# Altium footprint library Proyecto_TD3.PcbLib: 21 footprints (part 2 of 2)
Each footprint in its own frame and in the unit in brackets; x right, y up, seen from the top. Pads: shape width x height; smd on the part's side, far side on the other; paste and mask are expansions set on the pad; w line width, h text height; cw(c..) or ccw(c..) is an arc to the next point about the centre after c.
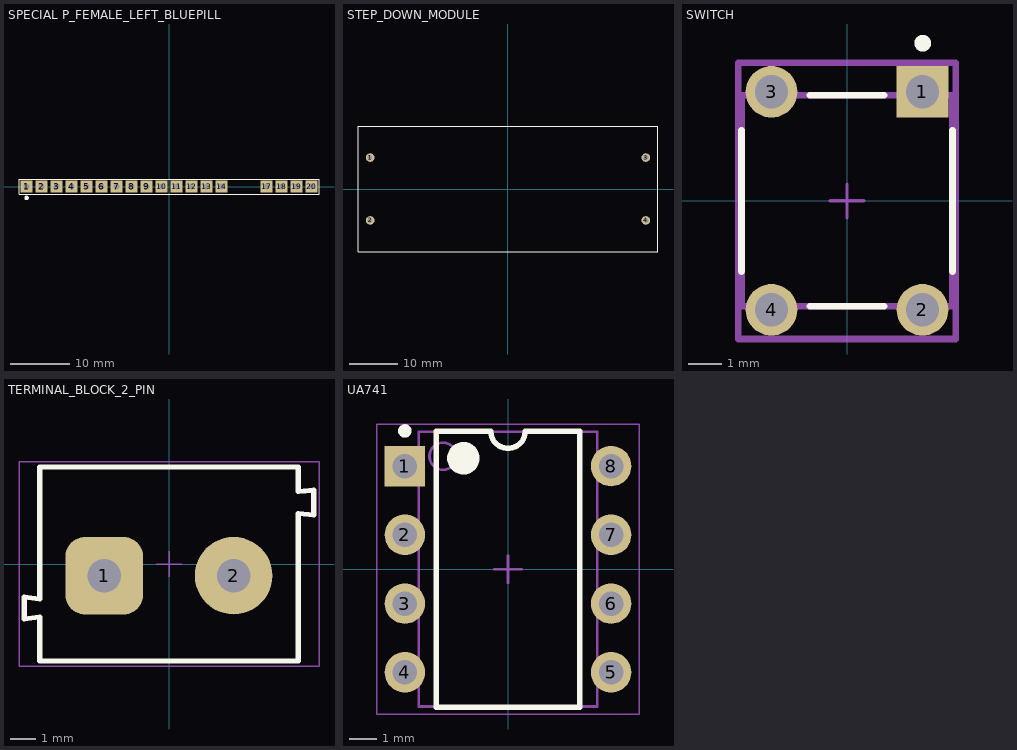
[diagram p1: the footprints below, top view; thin cyan lines are the x and y axes]

## SPECIAL P_FEMALE_LEFT_BLUEPILL [mm]
pads (18):
  rect 2x2 hole 1.016: 1(-24.13,0) 2(-21.59,0) 3(-19.05,0) 4(-16.51,0) 5(-13.97,0) 6(-11.43,0) 7(-8.89,0) 8(-6.35,0) 9(-3.81,0) 10(-1.27,0) 11(1.27,0) 12(3.81,0) 13(6.35,0) 14(8.89,0) 17(16.51,0) 18(19.05,0) 19(21.59,0) 20(24.13,0)
Top Overlay:
  circle w0.381: c-24.128,-1.905 r0.191
  lines w0.2: -10.16,-1.27 25.4,-1.27 25.4,-0.635 25.4,0.635 25.4,1.27 -10.16,1.27 ; 10.16,-1.27 -25.4,-1.27 -25.4,1.27 10.16,1.27
3D body "User Library-zl262-10s_p2-54_l25-9_w2-54_h8-5.step": height 8.5, standoff -3, extent -0.25,-1.27 25.65,1.27
3D body "User Library-zl262-10s_p2-54_l25-9_w2-54_h8-5.step": height 8.5, standoff -3, extent -25.65,-1.27 0.25,1.27

## STEP_DOWN_MODULE [mil]
pads (4):
  round 70 hole 40: 1(-1122.05,255.91) 2(-1122.05,-255.91) 3(1122.05,255.91) 4(1122.05,-255.91)
Top Overlay:
  lines w10: -1220.47,-511.81 -1220.47,511.81 1220.47,511.81 1220.47,-511.81 -1220.47,-511.81
3D body "User Library-Header_Male_1Pin.STEP": height 393.7, standoff -60.63, extent 1072.05,206.89 1172.05,304.92
3D body "User Library-Header_Male_1Pin.STEP": height 393.7, standoff -60.63, extent 1072.05,-304.92 1172.05,-206.89
3D body "User Library-Header_Male_1Pin.STEP": height 393.7, standoff -60.63, extent -1172.05,-304.92 -1072.05,-206.89
3D body "User Library-Header_Male_1Pin.STEP": height 393.7, standoff -60.63, extent -1172.05,206.89 -1072.05,304.92
3D body "VOLTAGE REGULATOR.STEP": height 792.52, standoff 177.17, extent -1125.2,-417.32 1125.2,377.95

## SWITCH [mm] "SWITCH TACTILE SPST-NO 0.05A 24V"
pads (4):
  rect 1.54x1.54 hole 0.99 paste-2539.97 mask+0: 1(2.25,3.25)
  round 1.54 hole 0.99 paste-2539.97 mask+0: 2(2.25,-3.25) 3(-2.25,3.25) 4(-2.25,-3.25)
Top Overlay:
  circle w0.25: c2.255,4.7 r0.125
  lines w0.2: -3.145,-2.105 -3.145,2.105 ; -1.105,-3.145 1.105,-3.145 ; -1.105,3.145 1.105,3.145 ; 3.145,-2.105 3.145,2.105
Top Assembly:
  lines w0.2: -3.245,-4.12 3.245,-4.12 3.245,4.12 -3.245,4.12 -3.245,-4.12
  text ".Designator" at 0,0.188 h1
Top 3D Body:
  lines w0.2: -3.145,-3.145 3.145,-3.145 3.145,3.145 -3.145,3.145 -3.145,-3.145
Top Courtyard:
  lines w0.2: -3.245,-4.12 3.245,-4.12 3.245,4.12 -3.245,4.12 -3.245,-4.12
Top Component Center:
  lines w0.1: -0.5,0 0.5,0 ; 0,-0.5 0,0.5
3D body "Switch_TE_Connectivity_1-1825910-4_eec.STEP": height 0.25, standoff 0, extent -3.245,-4.12 3.245,4.12

## TERMINAL_BLOCK_2_PIN [mm] "5,00mm - modular - blue - Horizontal entry with pressure clamp - 9,9 mm height - 02p"
height 9.9
pads (2):
  rrect50% 3x3 hole 1.3: 1(-2.5,-0.45)
  round 3 hole 1.3: 2(2.5,-0.45)
Top Overlay:
  lines w0.2: -5.6,-2.125 -5.6,-1.275 -5,-1.35 -5,3.75 5,3.75 5,2.8 5.6,2.85 5.6,1.9 5,1.95 5,-3.75 -5,-3.75 -5,-2.05 -5.6,-2.125
Top Designator:
  text ".Designator" at -7.498,-0.5 h1.5
Top Component Outline:
  lines w0.1: -5.6,-2.125 -5,-2.05 -5,-3.75 5,-3.75 5,1.95 5.6,1.9 5.6,2.85 5,2.8 5,3.75 -5,3.75 -5,-1.35 -5.6,-1.275 -5.6,-2.125
Top 3D Body:
  lines w0.1: -5.6,-2.125 -5.6,-1.275 -5,-1.35 -5,3.75 5,3.75 5,2.8 5.6,2.85 5.6,1.9 5,1.95 5,-3.75 -5,-3.75 -5,-2.05 -5.6,-2.125
Top Courtyard:
  lines w0.05: -5.8,-3.95 -5.8,3.95 5.8,3.95 5.8,-3.95 -5.8,-3.95
Top Component Center:
  lines w0.05: -0.5,0 0.5,0 ; 0,-0.5 0,0.5
3D body "691102710002.stp": height 9.96, standoff -3.44, extent -5.6,-3.75 5.6,3.75

## UA741 [mm] "DIP, 8-Leads, Body 10.15x6.6mm, Pitch 2.54mm"
height 5.08
pads (8):
  rect 1.5x1.5 hole 0.9: 1(-3.81,3.81)
  round 1.5 hole 0.9: 2(-3.81,1.27) 3(-3.81,-1.27) 4(-3.81,-3.81) 5(3.81,-3.81) 6(3.81,-1.27) 7(3.81,1.27) 8(3.81,3.81)
Top Overlay:
  circle w0.25: c-3.81,5.11 r0.125
  circle w0.6: c-1.65,4.1 r0.3
  lines w0.2: -2.65,-5.1 -2.65,5.1 -0.635,5.1 ccw(c0,5.1) 0.635,5.1 2.65,5.1 2.65,-5.1 -2.65,-5.1
Mechanical 1:
  text ".Designator" at -1.524,-0.508 h1.02
Top 3D Body:
  circle w0.1: c-2.4,4.175 r0.5
  lines w0.1: -3.3,-5.075 -3.3,5.075 3.3,5.075 3.3,-5.075 -3.3,-5.075
Top Courtyard:
  lines w0.05: -4.85,-5.35 -4.85,5.35 4.85,5.35 4.85,-5.35 -4.85,-5.35
  lines w0.1: -0.5,0 0.5,0 ; 0,-0.5 0,0.5
3D body: height 2.66, standoff 0, extent -3.945,3.31 -3.675,4.31
3D body: height 2.93, standoff 2.66, extent -3.945,3.31 -3.3,4.31
3D body: height 0, standoff -1.6, extent -3.945,3.45 -3.675,4.17
3D body: height 2.66, standoff 0, extent -3.945,0.77 -3.675,1.77
3D body: height 2.93, standoff 2.66, extent -3.945,0.77 -3.3,1.77
3D body: height 0, standoff -1.6, extent -3.945,0.91 -3.675,1.63
3D body: height 2.66, standoff 0, extent -3.945,-1.77 -3.675,-0.77
3D body: height 2.93, standoff 2.66, extent -3.945,-1.77 -3.3,-0.77
3D body: height 0, standoff -1.6, extent -3.945,-1.63 -3.675,-0.91
3D body: height 2.66, standoff 0, extent -3.945,-4.31 -3.675,-3.31
3D body: height 2.93, standoff 2.66, extent -3.945,-4.31 -3.3,-3.31
3D body: height 0, standoff -1.6, extent -3.945,-4.17 -3.675,-3.45
3D body: height 2.66, standoff 0, extent 3.675,-4.31 3.945,-3.31
3D body: height 2.93, standoff 2.66, extent 3.3,-4.31 3.945,-3.31
3D body: height 0, standoff -1.6, extent 3.675,-4.17 3.945,-3.45
3D body: height 2.66, standoff 0, extent 3.675,-1.77 3.945,-0.77
3D body: height 2.93, standoff 2.66, extent 3.3,-1.77 3.945,-0.77
3D body: height 0, standoff -1.6, extent 3.675,-1.63 3.945,-0.91
3D body: height 2.66, standoff 0, extent 3.675,0.77 3.945,1.77
3D body: height 2.93, standoff 2.66, extent 3.3,0.77 3.945,1.77
3D body: height 0, standoff -1.6, extent 3.675,0.91 3.945,1.63
3D body: height 2.66, standoff 0, extent 3.675,3.31 3.945,4.31
3D body: height 2.93, standoff 2.66, extent 3.3,3.31 3.945,4.31
3D body: height 0, standoff -1.6, extent 3.675,3.45 3.945,4.17
3D body: height 5.08, standoff 0.51, extent -3.3,-5.075 3.3,5.075